# Altium schematic symbol library Light Emitting Diode.SchLib: 4 symbols
Pins are listed as number, name and electrical type; pins without a type are passive.

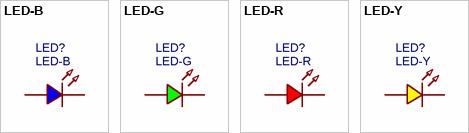
[diagram p0: symbols LED-B to LED-Y]

## LED-B
designator LED?
蓝色LED
footprint LED0805
footprint LED0603
footprint LED-TH_BD3.0
footprint LED-TH_BD5.0
pins: 1, 2

## LED-G
designator LED?
绿色LED
footprint LED0603
footprint LED0805
footprint LED-TH_BD3.0
footprint LED-TH_BD5.0
pins: 1, 2

## LED-R
designator LED?
红色LED
footprint LED0603
footprint LED0805
footprint LED-TH_BD3.0
footprint LED-TH_BD5.0
pins: 1, 2

## LED-Y
designator LED?
黄色LED
footprint LED0603
footprint LED0805
footprint LED-TH_BD3.0
footprint LED-TH_BD5.0
pins: 1, 2